# Altium footprint library BLE_ADS_ver02.PcbLib: 18 footprints (part 2 of 2)
Each footprint in its own frame and in the unit in brackets; x right, y up, seen from the top. Pads: shape width x height; smd on the part's side, far side on the other; paste and mask are expansions set on the pad; w line width, h text height; cw(c..) or ccw(c..) is an arc to the next point about the centre after c.
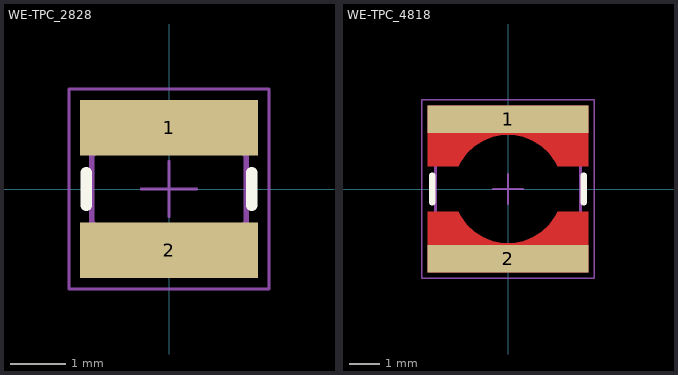
[diagram p1: the footprints below, top view; thin cyan lines are the x and y axes]

## WE-TPC_2828 [mm] "Power Inductor, SMD, 2-Leads, body 2.8x2.8mm"
height 3
pads (2):
  rect 3.2x1 smd: 1(0,1.1) 2(0,-1.1)
Top Overlay:
  lines w0.2: -1.49,-0.3 -1.49,0.3 ; 1.49,-0.3 1.49,0.3
Mechanical 13:
  lines w0.1: -1.39,-0.6 -0.6,-1.39 0.6,-1.39 1.39,-0.6 1.39,0.6 0.6,1.39 -0.6,1.39 -1.39,0.6 -1.39,-0.6
Mechanical 15:
  lines w0.05: -0.5,0 0.5,0 ; 0,-0.5 0,0.5 ; -1.8,-1.8 1.8,-1.8 1.8,1.8 -1.8,1.8 -1.8,-1.8
3D body "744025xxx.stp": height 2.82, standoff 0.02, extent -1.4,-1.4 1.4,1.4

## WE-TPC_4818 [mm] "Power Inductor, SMD, 2-Leads, body 4.8x4.8mm"
height 2
pads (2):
  rect 5.3x0.9 smd paste-403.566 mask-403.566: 1(0,2.3) 2(0,-2.3)
Top Layer:
  region: -2.65,0.75 -1.636,0.75 -1.558,0.902 -1.359,1.18 -1.112,1.416 -0.824,1.6 -0.506,1.727 -0.171,1.792 0.171,1.792 0.507,1.727 0.824,1.6 1.112,1.416 1.359,1.18 1.558,0.902 1.636,0.75 2.65,0.75 2.65,2.75 -2.65,2.75
  region: 2.65,-0.75 1.636,-0.75 1.558,-0.902 1.359,-1.18 1.112,-1.416 0.824,-1.6 0.506,-1.727 0.171,-1.792 -0.171,-1.792 -0.507,-1.727 -0.824,-1.6 -1.112,-1.416 -1.359,-1.18 -1.558,-0.902 -1.636,-0.75 -2.65,-0.75 -2.65,-2.75 2.65,-2.75
Top Overlay:
  lines w0.2: -2.5,-0.45 -2.5,0.45 ; 2.5,-0.45 2.5,0.45
Mechanical 13:
  lines w0.1: -2.4,-2.4 2.4,-2.4 2.4,2.4 -2.4,2.4 -2.4,-2.4
Mechanical 15:
  lines w0.05: -0.5,0 0.5,0 ; 0,-0.5 0,0.5 ; -2.85,-2.95 2.85,-2.95 2.85,2.95 -2.85,2.95 -2.85,-2.95
3D body "744042xxx.stp": height 1.8, standoff 0, extent -2.4,-2.4 2.4,2.4